# EAGLE library part UL1440 (library Audio-Power-amplifier)
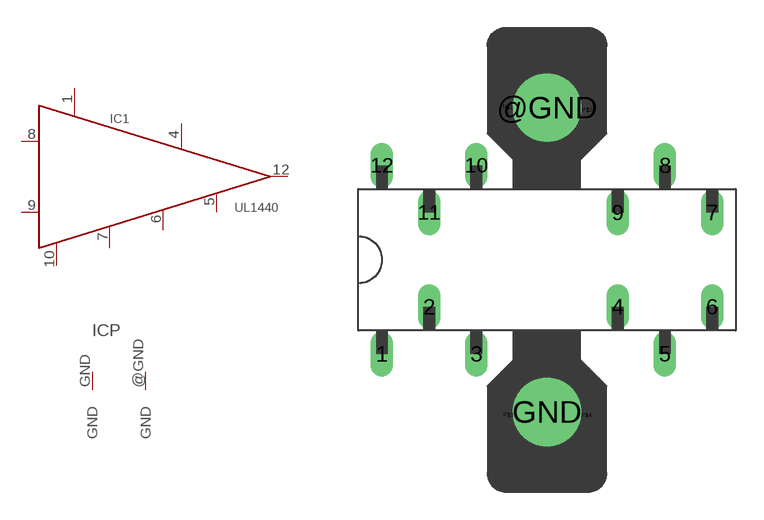
[diagram p7: symbol with the pads of CE82; footprint CE82]

Designator prefix IC; gates 1=UL1440 P=2GND

## UL1440T  [CE82]
1  1:VCC  pwr
4  1:BOSTRAP  pas
5  1:FCORE  pas
6  1:F_BACK  pas
7  1:TW  pas
8  1:IN  pas
9  1:GND  pwr
10  1:GND  pwr
12  1:OUT  pas
@GND  P:GND  pwr
GND  P:GND  pwr

## Footprint CE82 (pad centres in mm)
Package DIL 16 (CE83)
drill 0.7 long: 1 -8.89,-5.08; 2 -6.35,-2.54; 3 -3.81,-5.08; 4 3.81,-2.54; 5 6.35,-5.08; 6 8.89,-2.54; 7 8.89,2.54; 8 6.35,5.08; 9 3.81,2.54; 10 -3.81,5.08; 11 -6.35,2.54; 12 -8.89,5.08
drill 3.8: @GND 0,8.2; GND 0,-8.2
drill 0 pad 0.254: P$1 -2.12,8.22; P$2 2.17,8.07; P$3 -2.08,-8.37; P$4 2.12,-8.39